# EAGLE library part ARDUINO-MEGA-SH (library progetto1000 v33)
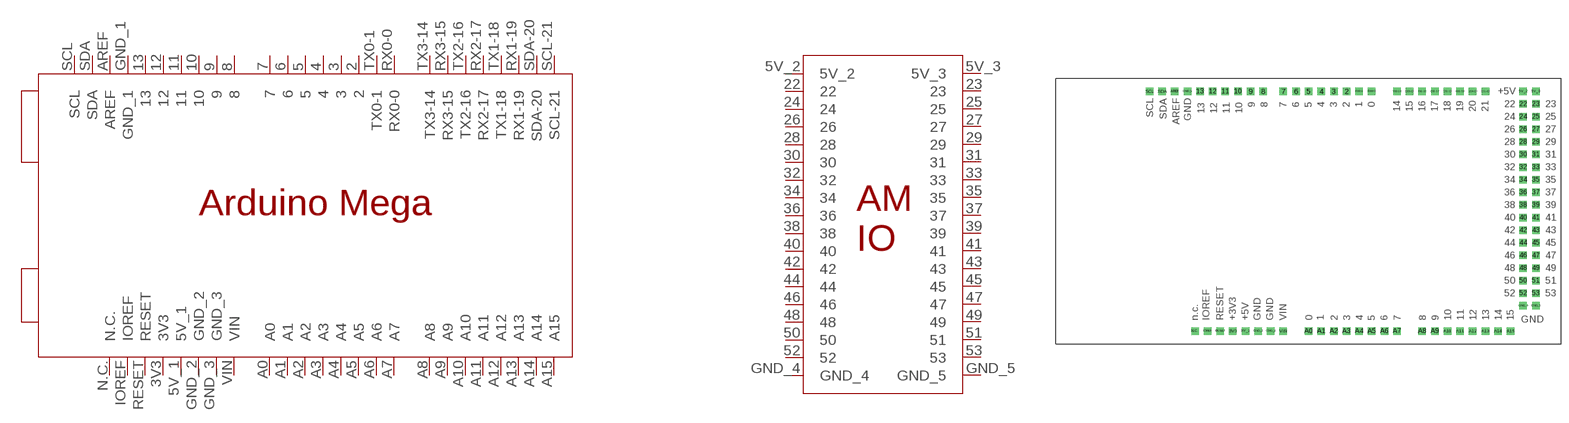
[diagram p0: symbol with the pads of ARDUINO-MEGA-SH; footprint ARDUINO-MEGA-SH]

Designator prefix ARDUINO-MEGA

## ARDUINO-MEGA-SH  [ARDUINO-MEGA-SH]
2  2
3  3
3V3  3V3
4  4
5  5
5V_1  5V_1
5V_2  5V_2
5V_3  5V_3
6  6
7  7
8  8
9  9
10  10
11  11
12  12
13  13
22  22
23  23
24  24
25  25
26  26
27  27
28  28
29  29
30  30
31  31
32  32
33  33
34  34
35  35
36  36
37  37
38  38
39  39
40  40
41  41
42  42
43  43
44  44
45  45
46  46
47  47
48  48
49  49
50  50
51  51
52  52
53  53
A0  A0
A1  A1
A2  A2
A3  A3
A4  A4
A5  A5
A6  A6
A7  A7
A8  A8
A9  A9
A10  A10
A11  A11
A12  A12
A13  A13
A14  A14
A15  A15
AREF  AREF
GND_1  GND_1
GND_2  GND_2
GND_3  GND_3
GND_4  GND_4
GND_5  GND_5
IOREF  IOREF
N.C.  N.C.
RESET  RESET
RX0-0  RX0-0
RX1-19  RX1-19
RX2-17  RX2-17
RX3-15  RX3-15
SCL  SCL
SCL-21  SCL-21
SDA  SDA
SDA-20  SDA-20
TX0-1  TX0-1
TX1-18  TX1-18
TX2-16  TX2-16
TX3-14  TX3-14
VIN  VIN

## Footprint ARDUINO-MEGA-SH (pad centres in mm)
drill 1 square: 2 58.42,50.8; 3 55.88,50.8; 3V3 35.56,2.54; 4 53.34,50.8; 5 50.8,50.8; 5V_1 38.1,2.54; 5V_2 93.98,50.8; 5V_3 96.52,50.8; 6 48.26,50.8; 7 45.72,50.8; 8 41.656,50.8; 9 39.116,50.8; 10 36.576,50.8; 11 34.036,50.8; 12 31.496,50.8; 13 28.956,50.8; 22 93.98,48.26; 23 96.52,48.26; 24 93.98,45.72; 25 96.52,45.72; 26 93.98,43.18; 27 96.52,43.18; 28 93.98,40.64; 29 96.52,40.64; 30 93.98,38.1; 31 96.52,38.1; 32 93.98,35.56; 33 96.52,35.56; 34 93.98,33.02; 35 96.52,33.02; 36 93.98,30.48; 37 96.52,30.48; 38 93.98,27.94; 39 96.52,27.94; 40 93.98,25.4; 41 96.52,25.4; 42 93.98,22.86; 43 96.52,22.86; 44 93.98,20.32; 45 96.52,20.32; 46 93.98,17.78; 47 96.52,17.78; 48 93.98,15.24; 49 96.52,15.24; 50 93.98,12.7; 51 96.52,12.7; 52 93.98,10.16; 53 96.52,10.16; A0 50.8,2.54; A1 53.34,2.54; A2 55.88,2.54; A3 58.42,2.54; A4 60.96,2.54; A5 63.5,2.54; A6 66.04,2.54; A7 68.58,2.54; A8 73.66,2.54; A9 76.2,2.54; A10 78.74,2.54; A11 81.28,2.54; A12 83.82,2.54; A13 86.36,2.54; A14 88.9,2.54; A15 91.44,2.54; AREF 23.876,50.8; GND_1 26.416,50.8; GND_2 40.64,2.54; GND_3 43.18,2.54; GND_4 93.98,7.62; GND_5 96.52,7.62; IOREF 30.48,2.54; N.C. 27.94,2.54; RESET 33.02,2.54; RX0-0 63.5,50.8; RX1-19 81.28,50.8; RX2-17 76.2,50.8; RX3-15 71.12,50.8; SCL 18.796,50.8; SCL-21 86.36,50.8; SDA 21.336,50.8; SDA-20 83.82,50.8; TX0-1 60.96,50.8; TX1-18 78.74,50.8; TX2-16 73.66,50.8; TX3-14 68.58,50.8; VIN 45.72,2.54